# Altium footprint library Visualizacion_PCB.PcbLib: 6 footprints
Each footprint in its own frame and in the unit in brackets; x right, y up, seen from the top. Pads: shape width x height; smd on the part's side, far side on the other; paste and mask are expansions set on the pad; w line width, h text height; cw(c..) or ccw(c..) is an arc to the next point about the centre after c.
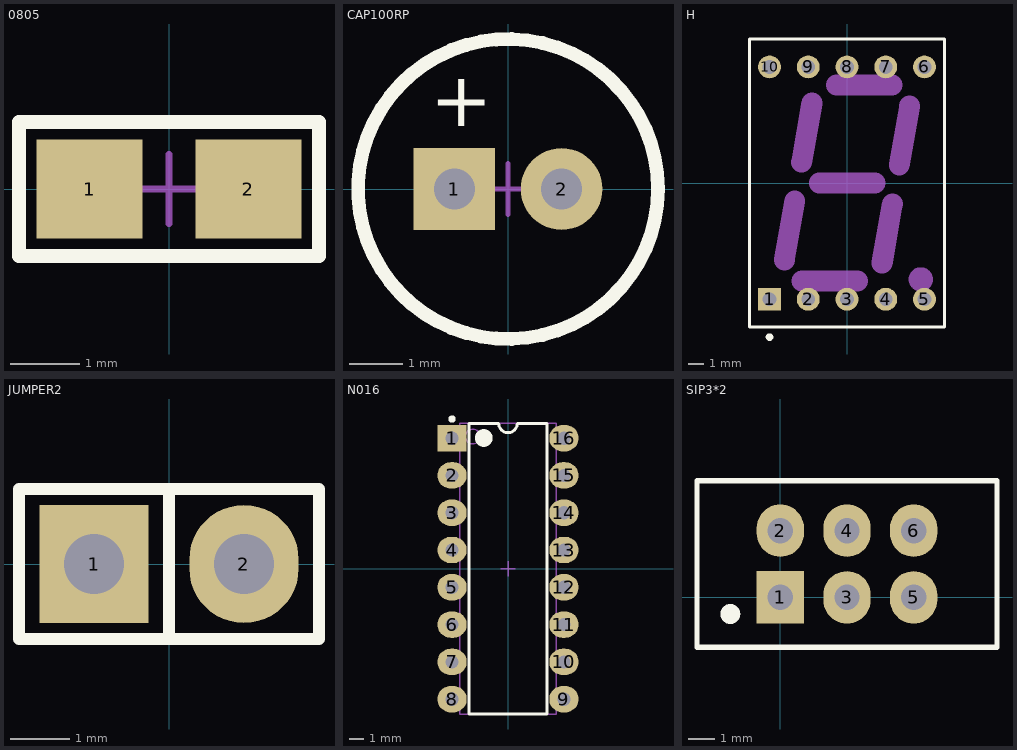
[diagram p0: the footprints below, top view; thin cyan lines are the x and y axes]

## 0805 [mil]
pads (2):
  rect 60x56 smd: 1(-45,0) 2(45,0)
Top Overlay:
  lines w7.87: -85,-38 -85,38 85,38 85,-38 -85,-38
Mechanical 15:
  lines w3.94: -19.69,0 19.68,0 ; 0,-19.68 0,19.68
3D body "0805.STEP": height 15.35, standoff -0.79, extent -39.5,-24.5 39.24,24.71

## CAP100RP [mil]
pads (2):
  rect 60x60 hole 30: 1(-39.37,0)
  round 60 hole 30: 2(39.37,0)
Top Overlay:
  circle w10: c0,0 r110
  text "+" at -57,46 h40
Mechanical 15:
  lines w3.94: -18.7,0 18.7,0 ; 0,-18.7 0,18.7
3D body "User Library-Cap electro 5x11x2mm.step": height 453.76, standoff -128.81, extent -99.43,-99 99.43,99.85

## H [mm]
pads (10):
  rect 1.5x1.5 / inner rect 1.5x1.5 / far side rect 2x2 hole 0.9: 1(-5.08,-7.62)
  round 1.5 / inner round 1.5 / far side round 2 hole 0.9: 2(-2.54,-7.62) 3(0,-7.62) 4(2.54,-7.62) 5(5.08,-7.62) 6(5.08,7.62) 7(2.54,7.62) 8(0,7.62) 9(-2.54,7.62) 10(-5.08,7.62)
Top Overlay:
  circle w0.25: c-5.08,-10.1 r0.125
  lines w0.2: -6.4,-9.45 6.4,-9.45 6.4,9.45 -6.4,9.45 -6.4,-9.45
Mechanical 1:
  circle w1: c4.842,-6.316 r0.296
  lines w1.37: -4.108,-5.054 -3.425,-1.17 ; -2.974,1.368 -2.293,5.255 ; -2.958,-6.429 0.692,-6.426 ; -1.821,0 1.828,0 ; -0.689,6.425 2.96,6.425 ; 2.295,-5.256 2.98,-1.371 ; 3.427,1.169 4.11,5.058
Mechanical 13:
  lines w0.1: -6.4,-9.45 -6.4,9.45 6.4,9.45 6.4,-9.45 -6.4,-9.45
3D body: height 8.25, standoff 0, extent -6.4,-9.45 6.4,9.45

## JUMPER2 [mm]
pads (2):
  rect 1.85x2 hole 1.016: 1(-1.27,0)
  oval 1.85x2 hole 1.016: 2(1.27,0)
Top Overlay:
  lines w0.2: 0,-1.27 0,1.27 ; -2.54,-1.27 -2.54,1.27 2.54,1.27 2.54,-1.27 -2.54,-1.27
3D body "Jumper SL2.STEP": height 9.5, standoff -2.6, extent -2.46,-1.27 2.54,1.27

## N016 [mm]
pads (16):
  rect 2x1.8 hole 0.9: 1(-3.81,8.89)
  oval 2x1.8 hole 0.9: 2(-3.81,6.35) 3(-3.81,3.81) 4(-3.81,1.27) 5(-3.81,-1.27) 6(-3.81,-3.81) 7(-3.81,-6.35) 8(-3.81,-8.89) 9(3.81,-8.89) 10(3.81,-6.35) 11(3.81,-3.81) 12(3.81,-1.27) 13(3.81,1.27) 14(3.81,3.81) 15(3.81,6.35) 16(3.81,8.89)
Top Overlay:
  circle w0.25: c-3.81,10.19 r0.125
  circle w0.6: c-1.65,8.9 r0.3
  lines w0.2: -2.65,-9.9 -2.65,9.9 -0.635,9.9 ccw(c0,9.9) 0.635,9.9 2.65,9.9 2.65,-9.9 -2.65,-9.9
Mechanical 13:
  circle w0.1: c-2.4,9 r0.5
  lines w0.1: -3.3,-9.9 -3.3,9.9 3.3,9.9 3.3,-9.9 -3.3,-9.9
Mechanical 15:
  lines w0.1: -0.5,0 0.5,0 ; 0,-0.5 0,0.5
3D body: height 5.08, standoff 0, extent -3.3,-9.9 3.3,9.9

## SIP3*2 [mm]
pads (6):
  rect 1.8x2 hole 0.965: 1(0,0)
  oval 1.8x2 hole 0.965: 2(0,2.54) 3(2.54,0) 4(2.54,2.54) 5(5.08,0) 6(5.08,2.54)
Top Overlay:
  circle w0.254: c-1.905,-0.635 r0.254
  circle w0.254: c-1.993,-0.635 r0.125
  lines w0.2: -3.175,-1.905 -3.175,4.445 8.255,4.445 8.255,-1.905 -3.175,-1.905
3D body "SIP3_2.step": height 10.1, standoff -1.5, extent -1.262,-1.295 6.358,3.785